# EAGLE library part DF37-24-HEADER (library hirose_df37)
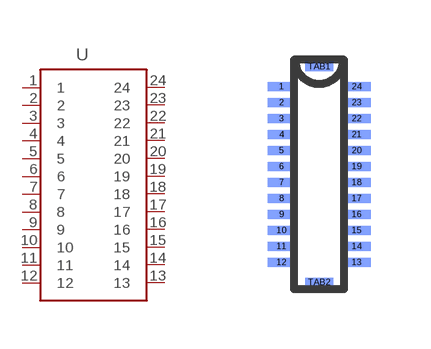
[diagram p0: symbol with the pads of DF37-24-HEADER; footprint DF37-24-HEADER]

Designator prefix -

## DF37-24-HEADER  [DF37-24-HEADER]
1  1
2  2
3  3
4  4
5  5
6  6
7  7
8  8
9  9
10  10
11  11
12  12
13  13
14  14
15  15
16  16
17  17
18  18
19  19
20  20
21  21
22  22
23  23
24  24

## Footprint DF37-24-HEADER (pad centres in mm)
DF37-24-RECEPTABLE Auto generated by make-symbol-device-package-bsdl.ulp Rev. 43
smd 0.7 x 0.23 bottom: 1 -0.94,2.2; 2 -0.94,1.8; 3 -0.94,1.4; 4 -0.94,1; 5 -0.94,0.6; 6 -0.94,0.2; 7 -0.94,-0.2; 8 -0.94,-0.6; 9 -0.94,-1; 10 -0.94,-1.4; 11 -0.94,-1.8; 12 -0.94,-2.2; 13 0.94,-2.2; 14 0.94,-1.8; 15 0.94,-1.4; 16 0.94,-1; 17 0.94,-0.6; 18 0.94,-0.2; 19 0.94,0.2; 20 0.94,0.6; 21 0.94,1; 22 0.94,1.4; 23 0.94,1.8; 24 0.94,2.2; TAB1 0,2.7; TAB2 0,-2.7